# EAGLE library part CARBON_KEY (library print-key)
Carbon Finger Key Switch on Layer 93 and connect all Contact-Refs with NET please note ERC warnings Not connected INPUT-Pin xx Set DRC Clearance - Same Signals - Smd | Smd, 0mm Carbon Fingerkontakt Layer 93 - Pin einschalten und an jedem Kontaktpunkt mit NET den Kontakt zu den einzellenen Teilflächen herstellen. Beachten Sie im ERC die Warnungen Nicht angeschlossener INPUT-Pin xx Stellen Sie im DRC unter Clerance - Same Signal | den Wert auf 0mm
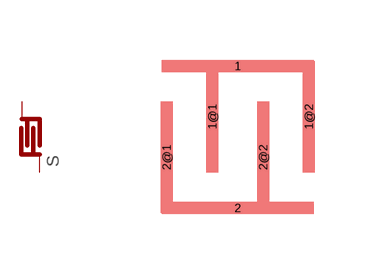
[diagram p0: symbol with the pads of CARBON_KEY; footprint CARBON_KEY]

Designator prefix S

## CARBON_KEY  [CARBON_KEY]
1  1  in
1@1  1  in
1@2  1  in
2  2  in
2@1  2  in
2@2  2  in

## Footprint CARBON_KEY (pad centres in mm)
Carbon Finger Key, carbon mask on Layer tFinish = 33 Switch on Layer 93 and connect all Contact-Refs with NET please note ERC warnings Not connected INPUT-Pin xx Set DRC Clearance - Same Signals - Smd | Smd, 0mm Carbon Fingerkontakt, die Maske für das Carbon ist im Layer tFinish = 33 Layer 93 - Pin einschalten und an jedem Kontaktpunkt mit NET den Kontakt zu den einzellenen Teilflächen herstellen. Beachten Sie im ERC die Warnungen Nicht angeschlossener INPUT-Pin xx Stellen Sie im DRC unter Clerance - Same Signal | den Wert auf 0mm
smd 3.81 x 0.305: 1 0,1.778; 2 0,-1.778
smd 0.305 x 2.794: 1@1 -0.635,0.508; 1@2 1.778,0.508; 2@1 -1.778,-0.508; 2@2 0.635,-0.508